# Altium footprint library SOP8P50_200X310X90L25X21N.PcbLib: 1 footprints
Each footprint in its own frame and in the unit in brackets; x right, y up, seen from the top. Pads: shape width x height; smd on the part's side, far side on the other; paste and mask are expansions set on the pad; w line width, h text height; cw(c..) or ccw(c..) is an arc to the next point about the centre after c.
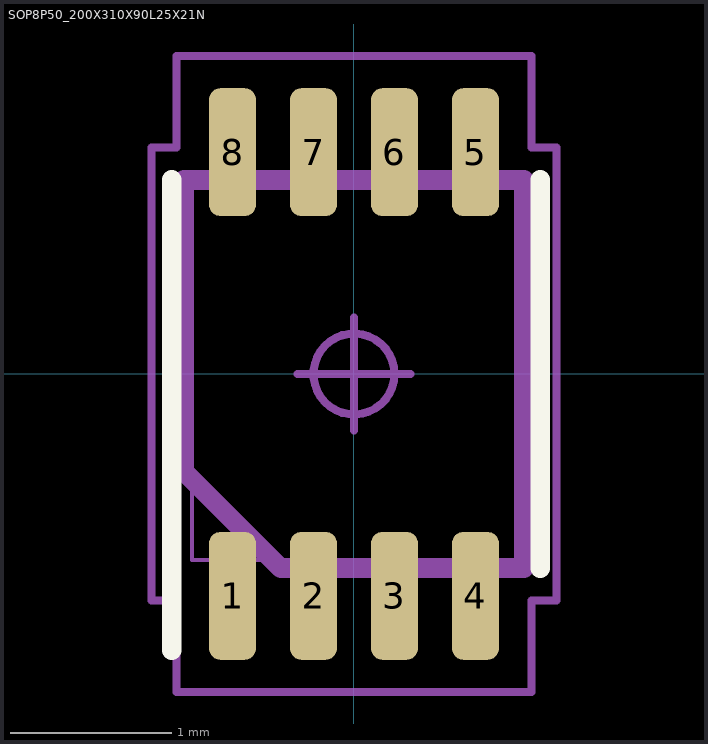
[diagram p0: the footprint, top view; thin cyan lines are the x and y axes]

## SOP8P50_200X310X90L25X21N [mm] "Small Outline Pkg (SOP), 0.50 mm pitch; 8 pin, 2.00 mm L X 2.30 mm W X 0.90 mm H body"
height 0.9
pads (8):
  rrect48% 0.29x0.79 smd: 1(-0.75,-1.37) 2(-0.25,-1.37) 3(0.25,-1.37) 4(0.75,-1.37) 5(0.75,1.37) 6(0.25,1.37) 7(-0.25,1.37) 8(-0.75,1.37)
Top Overlay:
  lines w0.12: -1.125,-1.705 -1.125,-1.2 -1.125,1.2 ; 1.15,-1.2 1.15,1.2
Mechanical 3:
  lines w0.12: -1.05,-0.601 -0.451,-1.2 1.05,-1.2 1.05,1.2 -1.05,1.2 -1.05,-0.601
Mechanical 5:
  lines w0.025: -1,-1.15 -1,1.15 1,1.15 1,-1.15 -1,-1.15 ; -0.855,-1.55 -0.645,-1.55 -0.645,-1.3 -0.855,-1.3 -0.855,-1.55 ; -0.855,1.3 -0.645,1.3 -0.645,1.55 -0.855,1.55 -0.855,1.3 ; -0.355,-1.55 -0.145,-1.55 -0.145,-1.3 -0.355,-1.3 -0.355,-1.55 ; -0.355,1.3 -0.145,1.3 -0.145,1.55 -0.355,1.55 -0.355,1.3 ; 0.145,-1.55 0.355,-1.55 0.355,-1.3 0.145,-1.3 0.145,-1.55 ; 0.145,1.3 0.355,1.3 0.355,1.55 0.145,1.55 0.145,1.3 ; 0.645,-1.55 0.855,-1.55 0.855,-1.3 0.645,-1.3 0.645,-1.55 ; 0.645,1.3 0.855,1.3 0.855,1.55 0.645,1.55 0.645,1.3
Mechanical 7:
  circle w0.05: c0,0 r0.25
  lines w0.05: -0.35,0 0.35,0 ; 0,-0.35 0,0.35 ; -1.25,-1.4 -1.25,1.4 -1.095,1.4 -1.095,1.965 1.095,1.965 1.095,1.4 1.25,1.4 1.25,-1.4 1.095,-1.4 1.095,-1.965 -1.095,-1.965 -1.095,-1.4 -1.25,-1.4
Mechanical 9:
  text "'.Designator'" at -4.445,-0.254 h1
3D body "SOP8P50_200X310X90L25X21.STEP": height 0.9, standoff 0, extent -1,-1.55 1,1.55
3D body: height 1, standoff 0, extent -1.25,-1.965 1.25,1.965